# Altium schematic symbol library MergenElektronik_Diodes_SchottkyDiodes.SchLib: 4 symbols
Pins are listed as number, name and electrical type; pins without a type are passive.

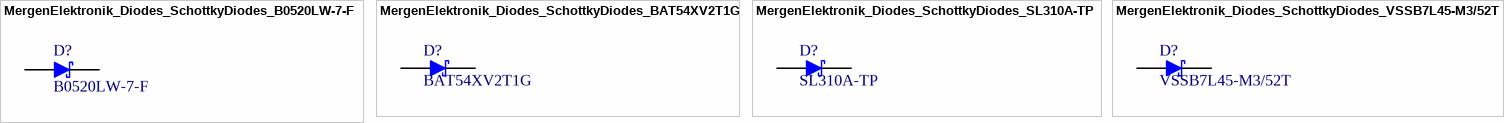
[diagram p0: symbols MergenElektronik_Diodes_SchottkyDiodes_B0520LW-7-F to MergenElektronik_Diodes_SchottkyDiodes_VSSB7L45-M3/52T]

## MergenElektronik_Diodes_SchottkyDiodes_B0520LW-7-F
designator D?, comment B0520LW-7-F
Mergen Elektronik - Diodes - Schottky Diodes - B0520LW-7-F; Manufacturer: Diodes Incorporated; Breakdown Voltage: 20V; Current Rating: 500mA; Forward Voltage: 385 mV @ 500mA; Digi-Key Number: B0520LW-FDITR-ND; Manufacturer Number: B0520LW-7-F; Model: Schottky Diodes; Mounting Type: Surface Mount; Package: SOD-123; Temperature: -65°C up to +125°C; Value: B0520LW-7-F; Mouser Number: 621-B0520LW-F; Farnell Number: 1773476; Supplier 1: Digikey; Supplier 2: Mouser; Supplier Part Number 2: 621-B0520LW-F; Supplier Part Number 1: B0520LW-FDITR-ND
footprint MergenElektronik_Diodes_SchottkyDiodes_SOD-523 (SOD-523)
pins: 1 ANOT, 2 KATOT

## MergenElektronik_Diodes_SchottkyDiodes_BAT54XV2T1G
designator D?, comment BAT54XV2T1G
Mergen Elektronik - Diodes - Schottky Diodes - BAT54XV2T1G; Manufacturer: onsemi; Breakdown Voltage: 100V; Current Rating: 200mA; Forward Voltage: 800 mV @ 100 mA; Digi-Key Number: BAT54XV2T1GOSCT-ND; Manufacturer Number: BAT54XV2T1G; Model: Schottky Diodes; Mounting Type: Surface Mount; Package: SOD-523; Temperature: -55°C up to +150°C; Value: BAT54XV2T1G; Mouser Number: 863-BAT54XV2T1G; Farnell Number: 1459034; Supplier 1: Digikey; Supplier 2: Mouser; Supplier Part Number 1: BAT54XV2T1GOSCT-ND; Supplier Part Number 2: 863-SBAT54XV2T1G
footprint MergenElektronik_Diodes_SchottkyDiodes_SOD-523 (SOD-523)
pins: 1 ANOT, 2 KATOT

## MergenElektronik_Diodes_SchottkyDiodes_SL310A-TP
designator D?, comment SL310A-TP
Mergen Elektronik - Diodes - Schottky Diodes - SL310A-TP; Manufacturer: Micro Commercial Co; Breakdown Voltage: 100V; Current Rating: 3A; Forward Voltage: 600 mV @ 3 A; Digi-Key Number: SL310A-TPMSTR-ND; Manufacturer Number: SL310A-TP; Model: Schottky Diodes; Mounting Type: Surface Mount; Package: DO-214AC(SMA); Temperature: -55°C up to +150°C; Value: SL310A-TP; Supplier 1: Digikey; Supplier 2: Mouser; Supplier Part Number 1: SL310A-TPMSDKR-ND; Supplier Part Number 2: 833-SL310A-TP; Mouser Number: 833-SL310A-TP
footprint MergenElektronik_Diodes_SchottkyDiodes_DO-214AC (SMA) (DO-214AC (SMA))
pins: 1 ANOT, 2 KATOT

## MergenElektronik_Diodes_SchottkyDiodes_VSSB7L45-M3/52T
designator D?, comment VSSB7L45-M3/52T
Mergen Elektronik - Diodes - Schottky Diodes - VSSB7L45-M3/52T; Manufacturer: Vishay General Semiconductor - Diodes Division; Breakdown Voltage: 45V; Current Rating: 3.8A; Forward Voltage: 430 mV @ 3.5 A; Digi-Key Number: VSSB7L45-M3/52TGICT-ND; Manufacturer Number: VSSB7L45-M3/52T; Model: Schottky Diodes; Mounting Type: Surface Mount; Package: DO-214AA(SMB); Temperature: -40°C up to +150°C; Supplier 1: Digi-Key; Supplier Part Number 1: VSSB7L45-M3/52TGICT-ND; Value: VSSB7L45-M3/52T
footprint MergenElektronik_Diodes_SchottkyDiodes_DO-214AA (SMB) (DO-214AA (SMB))
pins: 1 ANOT, 2 KATOT